# EAGLE library part ST4SI2M0020TPIFW (library ST4SI2M0020TPIFW)
ESIM GSMA SYS-ON-CHIP SOLUTION, VFDFPN Source: Datasheet
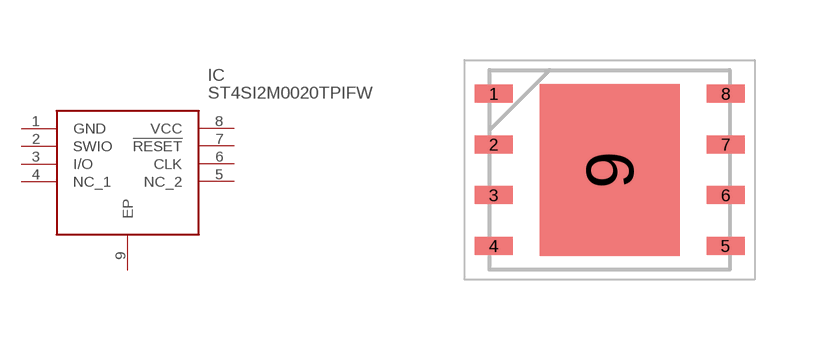
[diagram p0: symbol with the pads of SON127P600X500X100-9N; footprint SON127P600X500X100-9N]

Designator prefix IC

## ST4SI2M0020TPIFW (Description: ESIM GSMA SYS-ON-CHIP SOLUTION, VFDFPN; Height: 1mm; Manufacturer_Name: STMicroelectronics; Manufacturer_Part_Number: ST4SI2M0020TPIFW; Mouser_Part_Number: 511-ST4SI2M0020TPIFW; Mouser_Price-Stock: https://www.mouser.co.uk/ProductDetail/STMicroelectronics/ST4SI2M0020TPIFW?qs=DRkmTr78QAT1FRyrW1ScNQ%3D%3D)  [SON127P600X500X100-9N]
1  GND
2  SWIO
3  I/O
4  NC_1
5  NC_2
6  CLK
7  !RESET
8  VCC
9  EP

## Footprint SON127P600X500X100-9N (pad centres in mm)
VFDFPN8_2021
smd 0.95 x 0.45: 1 -2.9,1.905; 2 -2.9,0.635; 3 -2.9,-0.635; 4 -2.9,-1.905; 5 2.9,-1.905; 6 2.9,-0.635; 7 2.9,0.635; 8 2.9,1.905
smd 3.5 x 4.3: 9 0,0